# EAGLE library part FPC-05WAY (library pimoroni-fpc)
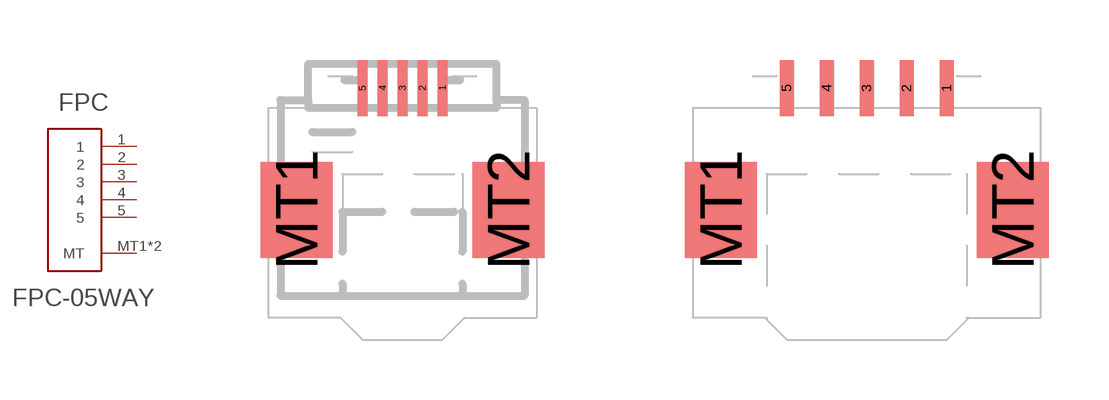
[diagram p0: symbol with the pads of FPC-0.5MM-05WAY; footprints FPC-0.5MM-05WAY, FPC-1.0MM-05WAY]

Designator prefix FPC

## FPC-05WAY0.5  [FPC-0.5MM-05WAY]
1  1
2  2
3  3
4  4
5  5
MT1  MT
MT2  MT

## FPC-05WAY1.0  [FPC-1.0MM-05WAY]
Pads as for FPC-0.5MM-05WAY

## Footprint FPC-0.5MM-05WAY (pad centres in mm)
smd 0.25 x 1.4: 1 1,0.7; 2 0.5,0.7; 3 0,0.7; 4 -0.5,0.7; 5 -1,0.7
smd 1.8 x 2.4: MT1 -2.65,-2.35; MT2 2.65,-2.35

## Footprint FPC-1.0MM-05WAY (pad centres in mm)
smd 0.35 x 1.4: 1 2,0.7; 2 1,0.7; 3 0,0.7; 4 -1,0.7; 5 -2,0.7
smd 1.8 x 2.4: MT1 -3.65,-2.35; MT2 3.65,-2.35